# Altium footprint library ANT_IFA_2_4GHZ_50R.PcbLib: 2 footprints
Each footprint in its own frame and in the unit in brackets; x right, y up, seen from the top. Pads: shape width x height; smd on the part's side, far side on the other; paste and mask are expansions set on the pad; w line width, h text height; cw(c..) or ccw(c..) is an arc to the next point about the centre after c.
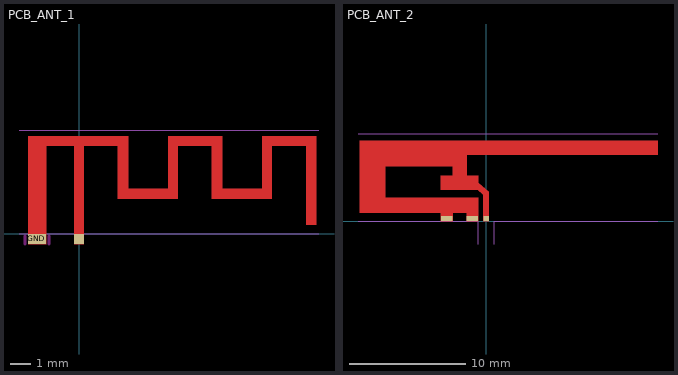
[diagram p0: the footprints below, top view; thin cyan lines are the x and y axes]

## PCB_ANT_1 [mm]
pads (2):
  rect 0.5x0.5 smd paste+0 mask+0: ANT(0,-0.25)
  rect 0.9x0.5 smd paste+0 mask+0: GND(-2.1,-0.25)
Top Layer:
  region: -0.25,-0.5 -0.25,4.4 -1.65,4.4 -1.65,-0.5 -2.55,-0.5 -2.55,4.9 2.45,4.9 2.45,2.26 4.45,2.26 4.45,4.9 7.15,4.9 7.15,2.26 9.15,2.26 9.15,4.9 11.85,4.9 11.85,0.46 11.35,0.46 11.35,4.4 9.65,4.4 9.65,1.76 6.65,1.76 6.65,4.4 4.95,4.4 4.95,1.76 1.95,1.76 1.95,4.4 0.25,4.4 0.25,-0.5
Top Layer keep-out:
  lines w0.127: -2.7,-0.5 -2.7,-0.1 ; -1.5,-0.5 -1.5,-0.1
Mechanical 3:
  lines w0.05: -3,0 12,0 ; -3,5.2 12,5.2

## PCB_ANT_2 [mm]
pads (3):
  rect 0.46x0.46 smd paste+0 mask+0: ANT(0,0.23)
  rect 1x0.46 smd paste+0 mask+0: GND(-3.38,0.23) GND(-1.18,0.23)
Top Layer:
  region: -0.23,0 -0.23,2.28 -0.73,2.69 -3.88,2.69 -3.88,3.9 -2.88,3.9 -2.88,4.7 -8.68,4.7 -8.68,2.03 -0.68,2.03 -0.68,0 -1.68,0 -1.68,0.7 -2.88,0.7 -2.88,0 -3.88,0 -3.88,0.74 -10.86,0.74 -10.86,6.91 14.72,6.91 14.72,5.7 -1.68,5.7 -1.68,3.9 -0.68,3.9 -0.68,3.29 0.23,2.53 0.23,0
Mechanical 3:
  lines w0.1: -11,0 -0.68,0 -0.68,-2 ; -11,7.52 14.75,7.52 ; 0.68,-2 0.68,0 14.75,0